# EAGLE library part TFT1800WITHSD (library inode)
Adafruit TFT 1.8" with SD (ST7735) 1.8" 18-bit color TFT LCD display with microSD card breakout http://www.adafruit.com/products/358
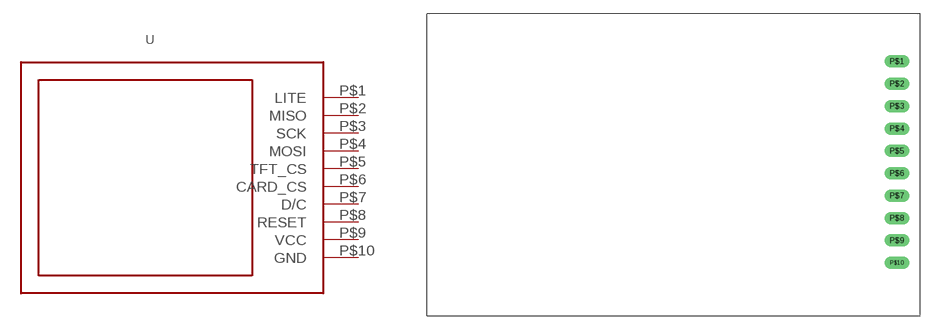
[diagram p0: symbol with the pads of TFT1800WITHSD; footprint TFT1800WITHSD]

Designator prefix -

## TFT1800WITHSD  [TFT1800WITHSD]
P$1  LITE
P$2  MISO
P$3  SCK
P$4  MOSI
P$5  TFT_CS
P$6  CARD_CS
P$7  D/C
P$8  RESET
P$9  VCC
P$10  GND

## Footprint TFT1800WITHSD (pad centres in mm)
drill 0.9 long: P$1 24.13,11.43; P$2 24.13,8.89; P$3 24.13,6.35; P$4 24.13,3.81; P$5 24.13,1.27; P$6 24.13,-1.27; P$7 24.13,-3.81; P$8 24.13,-6.35; P$9 24.13,-8.89; P$10 24.13,-11.43